# Altium footprint library a_Valider_TEMP.PcbLib: 6 footprints
Each footprint in its own frame and in the unit in brackets; x right, y up, seen from the top. Pads: shape width x height; smd on the part's side, far side on the other; paste and mask are expansions set on the pad; w line width, h text height; cw(c..) or ccw(c..) is an arc to the next point about the centre after c.
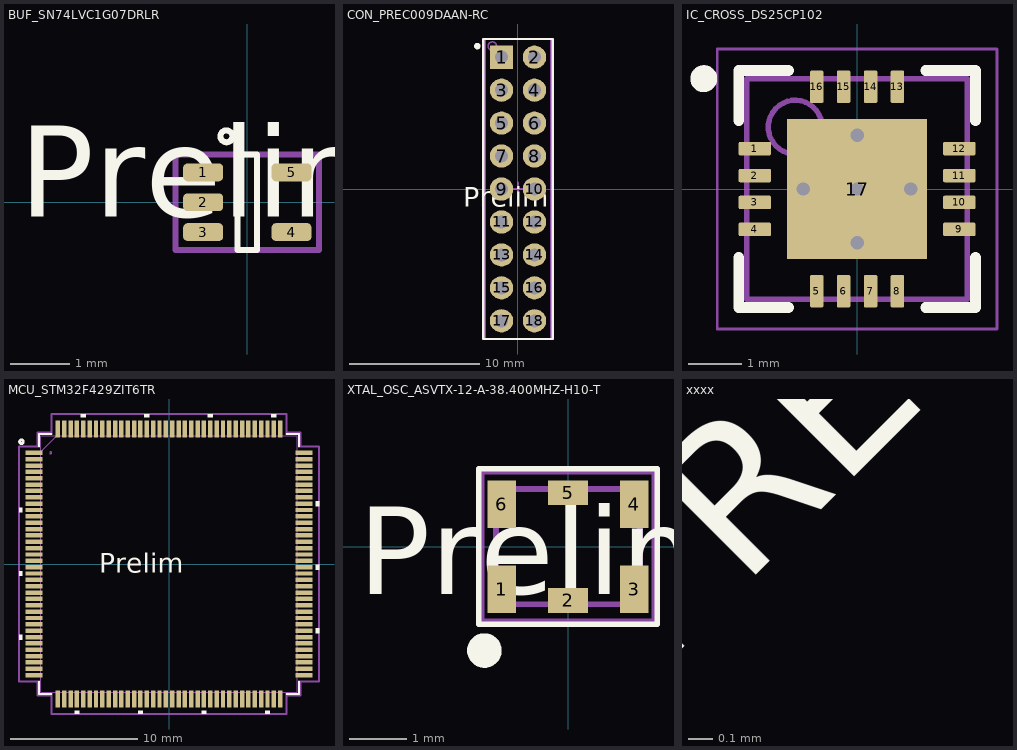
[diagram p0: the footprints below, top view; thin cyan lines are the x and y axes]

## BUF_SN74LVC1G07DRLR [mm] "SOT-5"
pads (5):
  rrect50% 0.67x0.3 smd paste-0.05 mask+0.05: 1(-0.74,0.5) 2(-0.74,0) 3(-0.74,-0.5) 4(0.74,-0.5) 5(0.74,0.5)
Top Overlay:
  circle w0.1: c-0.35,1.104 r0.1
  lines w0.1: -0.165,-0.8 0.165,-0.8 0.165,0.8 -0.165,0.8 -0.165,-0.8
  text "Prelim" at -3.824,-0.246 h1.52
Top Courtyard:
  lines w0.1: -1.2,-0.8 -1.2,0.8 1.2,0.8 1.2,-0.8 -1.2,-0.8
3D body "SN74LVC1G07DRLR.STEP": height 0.6, standoff 0, extent -0.8,-0.8 0.8,0.8

## CON_PREC009DAAN-RC [mm] "18 pin header 100 mils"
pads (18):
  rect 1.8x1.8 hole 1: 1(-1.27,10.16)
  round 1.8 hole 1: 2(1.27,10.16) 3(-1.27,7.62) 4(1.27,7.62) 5(-1.27,5.08) 6(1.27,5.08) 7(-1.27,2.54) 8(1.27,2.54) 9(-1.27,0) 10(1.27,0) 11(-1.27,-2.54) 12(1.27,-2.54) 13(-1.27,-5.08) 14(1.27,-5.08) 15(-1.27,-7.62) 16(1.27,-7.62) 17(-1.27,-10.16) 18(1.27,-10.16)
Top Overlay:
  circle w0.25: c-3.132,11.011 r0.127
  lines w0.178: -2.667,-11.557 2.667,-11.557 2.667,11.557 -2.667,11.557 -2.667,-11.557
  text "Prelim" at -4.207,-1.351 h1.52
Top Assembly Drawing:
  circle w0.127: c-1.977,11.011 r0.322
  lines w0.127: -0.5,0 0.5,0 ; 0,-0.5 0,0.5 ; -2.54,-11.557 -2.54,11.557 2.54,11.557 2.54,-11.557 -2.54,-11.557
Top Courtyard:
  lines w0.127: -2.667,-11.557 -2.667,11.557 2.667,11.557 2.667,-11.557 -2.667,-11.557
3D body "PR(E,P)C009DAAN-RC.STEP": height 8.43, standoff -2.94, extent -2.54,-11.43 2.54,11.43

## IC_CROSS_DS25CP102 [mm] "WQFN-16"
height 0.8
pads (17):
  rrect20% 0.6x0.25 smd paste+0 mask+0.07: 1(-1.9,0.75) 2(-1.9,0.25) 3(-1.9,-0.25) 4(-1.9,-0.75) 9(1.9,-0.75) 10(1.9,-0.25) 11(1.9,0.25) 12(1.9,0.75)
  rrect20% 0.25x0.6 smd paste+0 mask+0.07: 5(-0.75,-1.9) 6(-0.25,-1.9) 7(0.25,-1.9) 8(0.75,-1.9) 13(0.75,1.9) 14(0.25,1.9) 15(-0.25,1.9) 16(-0.75,1.9)
  rect 2.6x2.6 smd paste-1.3 mask+0.07: 17(0,0)
via 0,0 diameter 0.5 hole 0.25
via -1,0 diameter 0.5 hole 0.25
via 0,1 diameter 0.5 hole 0.25
via 0,-1 diameter 0.5 hole 0.25
via 1,0 diameter 0.5 hole 0.25
Top Overlay:
  circle w0.25: c-2.85,2.05 r0.125
  lines w0.2: -2.2,-1.275 -2.2,-2.2 -1.275,-2.2 ; -2.2,1.275 -2.2,2.2 -1.275,2.2 ; 1.275,-2.2 2.2,-2.2 2.2,-1.275 ; 1.275,2.2 2.2,2.2 2.2,1.275
Top Paste:
  rectangle: 0.1,0.1 1.25,1.25
  rectangle: 0.1,-1.25 1.25,-0.1
  rectangle: -1.25,-1.25 -0.1,-0.1
  rectangle: -1.25,0.1 -0.1,1.25
Top Assembly Drawing:
  circle w0.1: c-1.15,1.15 r0.5
  lines w0.1: -2.05,-2.05 -2.05,2.05 2.05,2.05 2.05,-2.05 -2.05,-2.05
Top Courtyard:
  lines w0.05: -2.6,-2.6 -2.6,2.6 2.6,2.6 2.6,-2.6 -2.6,-2.6
  lines w0.1: -0.5,0 0.5,0 ; 0,-0.5 0,0.5
3D body "QFN50P400X400X80_HS-17N.step": height 0.8, standoff 0, extent -2.051,-2.051 2.051,2.051

## MCU_STM32F429ZIT6TR [mm] "LQFP-144"
pads (144):
  rect 1.35x0.35 smd paste-0.05 mask+0.05: 1(-10.625,8.75) 2(-10.625,8.25) 3(-10.625,7.75) 4(-10.625,7.25) 5(-10.625,6.75) 6(-10.625,6.25) 7(-10.625,5.75) 8(-10.625,5.25) 9(-10.625,4.75) 10(-10.625,4.25) 11(-10.625,3.75) 12(-10.625,3.25) 13(-10.625,2.75) 14(-10.625,2.25) 15(-10.625,1.75) 16(-10.625,1.25) 17(-10.625,0.75) 18(-10.625,0.25) 19(-10.625,-0.25) 20(-10.625,-0.75) 21(-10.625,-1.25) 22(-10.625,-1.75) 23(-10.625,-2.25) 24(-10.625,-2.75) 25(-10.625,-3.25) 26(-10.625,-3.75) 27(-10.625,-4.25) 28(-10.625,-4.75) 29(-10.625,-5.25) 30(-10.625,-5.75) 31(-10.625,-6.25) 32(-10.625,-6.75) 33(-10.625,-7.25) 34(-10.625,-7.75) 35(-10.625,-8.25) 36(-10.625,-8.75) 73(10.625,-8.75) 74(10.625,-8.25) 75(10.625,-7.75) 76(10.625,-7.25) 77(10.625,-6.75) 78(10.625,-6.25) 79(10.625,-5.75) 80(10.625,-5.25) 81(10.625,-4.75) 82(10.625,-4.25) 83(10.625,-3.75) 84(10.625,-3.25) 85(10.625,-2.75) 86(10.625,-2.25) 87(10.625,-1.75) 88(10.625,-1.25) 89(10.625,-0.75) 90(10.625,-0.25) 91(10.625,0.25) 92(10.625,0.75) 93(10.625,1.25) 94(10.625,1.75) 95(10.625,2.25) 96(10.625,2.75) 97(10.625,3.25) 98(10.625,3.75) 99(10.625,4.25) 100(10.625,4.75) 101(10.625,5.25) 102(10.625,5.75) 103(10.625,6.25) 104(10.625,6.75) 105(10.625,7.25) 106(10.625,7.75) 107(10.625,8.25) 108(10.625,8.75)
  rect 0.35x1.35 smd paste-0.05 mask+0.05: 37(-8.75,-10.625) 38(-8.25,-10.625) 39(-7.75,-10.625) 40(-7.25,-10.625) 41(-6.75,-10.625) 42(-6.25,-10.625) 43(-5.75,-10.625) 44(-5.25,-10.625) 45(-4.75,-10.625) 46(-4.25,-10.625) 47(-3.75,-10.625) 48(-3.25,-10.625) 49(-2.75,-10.625) 50(-2.25,-10.625) 51(-1.75,-10.625) 52(-1.25,-10.625) 53(-0.75,-10.625) 54(-0.25,-10.625) 55(0.25,-10.625) 56(0.75,-10.625) 57(1.25,-10.625) 58(1.75,-10.625) 59(2.25,-10.625) 60(2.75,-10.625) 61(3.25,-10.625) 62(3.75,-10.625) 63(4.25,-10.625) 64(4.75,-10.625) 65(5.25,-10.625) 66(5.75,-10.625) 67(6.25,-10.625) 68(6.75,-10.625) 69(7.25,-10.625) 70(7.75,-10.625) 71(8.25,-10.625) 72(8.75,-10.625) 109(8.75,10.625) 110(8.25,10.625) 111(7.75,10.625) 112(7.25,10.625) 113(6.75,10.625) 114(6.25,10.625) 115(5.75,10.625) 116(5.25,10.625) 117(4.75,10.625) 118(4.25,10.625) 119(3.75,10.625) 120(3.25,10.625) 121(2.75,10.625) 122(2.25,10.625) 123(1.75,10.625) 124(1.25,10.625) 125(0.75,10.625) 126(0.25,10.625) 127(-0.25,10.625) 128(-0.75,10.625) 129(-1.25,10.625) 130(-1.75,10.625) 131(-2.25,10.625) 132(-2.75,10.625) 133(-3.25,10.625) 134(-3.75,10.625) 135(-4.25,10.625) 136(-4.75,10.625) 137(-5.25,10.625) 138(-5.75,10.625) 139(-6.25,10.625) 140(-6.75,10.625) 141(-7.25,10.625) 142(-7.75,10.625) 143(-8.25,10.625) 144(-8.75,10.625)
Top Overlay:
  circle w0.203: c-11.617,9.621 r0.152
  region: -11.557,-5.575 -11.811,-5.575 -11.811,-5.956 -11.557,-5.956
  region: -6.559,11.552 -6.94,11.552 -6.94,11.806 -6.559,11.806
  region: -1.559,11.552 -1.94,11.552 -1.94,11.806 -1.559,11.806
  region: 3.441,11.552 3.06,11.552 3.06,11.806 3.441,11.806
  region: 8.441,11.552 8.06,11.552 8.06,11.806 8.441,11.806
  region: 11.552,4.941 11.806,4.941 11.806,4.56 11.552,4.56
  region: 11.552,-0.059 11.806,-0.059 11.806,-0.44 11.552,-0.44
  region: 11.552,-5.059 11.806,-5.059 11.806,-5.44 11.552,-5.44
  region: 7.94,-11.552 7.559,-11.552 7.559,-11.806 7.94,-11.806
  region: 2.94,-11.552 2.559,-11.552 2.559,-11.806 2.94,-11.806
  region: -2.06,-11.552 -2.441,-11.552 -2.441,-11.806 -2.06,-11.806
  region: -7.06,-11.552 -7.441,-11.552 -7.441,-11.806 -7.06,-11.806
  region: -11.552,-0.56 -11.806,-0.56 -11.806,-0.941 -11.552,-0.941
  region: -11.552,4.44 -11.806,4.44 -11.806,4.059 -11.552,4.059
  lines w0.152: -10.223,-9.261 -10.223,-10.223 -9.261,-10.223 ; -10.223,9.261 -10.223,10.223 -9.261,10.223 ; 9.261,-10.223 10.223,-10.223 10.223,-9.261 ; 9.261,10.223 10.223,10.223 10.223,9.261
  text "Prelim" at -5.496,-0.687 h1.52
Top 3D Model:
  circle w0: c-9.317,8.75 r0.076
  lines w0.025: -10.096,8.826 -8.826,10.096 ; -10.096,-10.096 -10.096,10.096 10.096,10.096 10.096,-10.096 -10.096,-10.096
Top Courtyard:
  lines w0.152: -11.806,-9.258 -11.806,9.258 -10.351,9.258 -10.351,10.351 -9.258,10.351 -9.258,11.806 9.258,11.806 9.258,10.351 10.351,10.351 10.351,9.258 11.806,9.258 11.806,-9.258 10.351,-9.258 10.351,-10.351 9.258,-10.351 9.258,-11.806 -9.258,-11.806 -9.258,-10.351 -10.351,-10.351 -10.351,-9.258 -11.806,-9.258
3D body: height 0.25, standoff 0, extent 0,0 0.254,0.254
3D body "LQFP144-20x20mm.step": height 1.6, standoff 0, extent -10.948,-10.948 10.948,10.948

## XTAL_OSC_ASVTX-12-A-38.400MHZ-H10-T [mm] "4-SMD"
pads (6):
  rect 0.5x0.825 smd paste-0.05 mask+0.05: 1(-1.15,-0.737) 3(1.15,-0.737) 4(1.15,0.737) 6(-1.15,0.737)
  rect 0.7x0.43 smd paste-0.05 mask+0.05: 2(0,-0.935) 5(0,0.935)
Top Overlay:
  circle w0.3: c-1.451,-1.805 r0.15
  lines w0.1: -1.55,-1.35 -1.55,1.35 1.55,1.35 1.55,-1.35 -1.55,-1.35
  text "Prelim" at -3.647,-0.826 h1.52
Top Assembly Drawing:
  lines w0.1: -1.25,-1 -1.25,1 1.25,1 1.25,-1 -1.25,-1
Top Courtyard:
  lines w0.1: -1.5,-1.3 1.5,-1.3 1.5,1.3 -1.5,1.3 -1.5,-1.3
3D body "ASVTX-12_ABR.step": height 0.89, standoff 0, extent -1.321,-1.08 1.321,1.08

## xxxx [mm]
Top Layer:
  text "c" at 27.769,13.105 h2.51
  text "o" at 26.625,13.105 h2.51
  text "D" at 24.971,13.106 h2.51
  text "h" at 23.826,13.106 h2.51
  text "c" at 22.809,13.105 h2.51
  text "S" at 21.579,13.108 h2.51
  text "." at 20.985,13.105 h2.51
  text "P" at 19.968,13.106 h2.51
  text "O" at 18.314,13.108 h2.51
  text "T" at 16.957,13.106 h2.51
  text "_" at 15.813,13.109 h2.51
  text "D" at 14.159,13.106 h2.51
  text "R" at 12.633,13.106 h2.51
  text "A" at 11.024,13.106 h2.51
  text "O" at 9.368,13.108 h2.51
  text "B" at 7.841,13.106 h2.51
  text "_" at 6.697,13.109 h2.51
  text "E" at 5.297,13.106 h2.51
  text "V" at 3.644,13.108 h2.51
  text "I" at 2.923,13.106 h2.51
  text "H" at 1.269,13.106 h2.51
  text "P" at 4.28,15.65 h2.51
  text "O" at 2.626,15.652 h2.51
  text "T" at 1.269,15.65 h2.51
  text "c" at 27.769,13.105 h2.51
  text "o" at 26.625,13.105 h2.51
  text "D" at 24.971,13.106 h2.51
  text "h" at 23.826,13.106 h2.51
  text "c" at 22.809,13.105 h2.51
  text "S" at 21.579,13.108 h2.51
  text "." at 20.985,13.105 h2.51
  text "P" at 19.968,13.106 h2.51
  text "O" at 18.314,13.108 h2.51
  text "T" at 16.957,13.106 h2.51
  text "_" at 15.813,13.109 h2.51
  text "D" at 14.159,13.106 h2.51
  text "R" at 12.633,13.106 h2.51
  text "A" at 11.024,13.106 h2.51
  text "O" at 9.368,13.108 h2.51
  text "B" at 7.841,13.106 h2.51
  text "_" at 6.697,13.109 h2.51
  text "E" at 5.297,13.106 h2.51
  text "V" at 3.644,13.108 h2.51
  text "I" at 2.923,13.106 h2.51
  text "H" at 1.269,13.106 h2.51
  text "P" at 4.28,15.65 h2.51
  text "O" at 2.626,15.652 h2.51
  text "T" at 1.269,15.65 h2.51
Top Overlay:
  text "PRELIMINARY" at -2.464,-2.997 h1.25